# Altium schematic symbol library Zilog Microcontroller 8-Bit.SchLib: 29 symbols
Pins are listed as number, name and electrical type; pins without a type are passive.

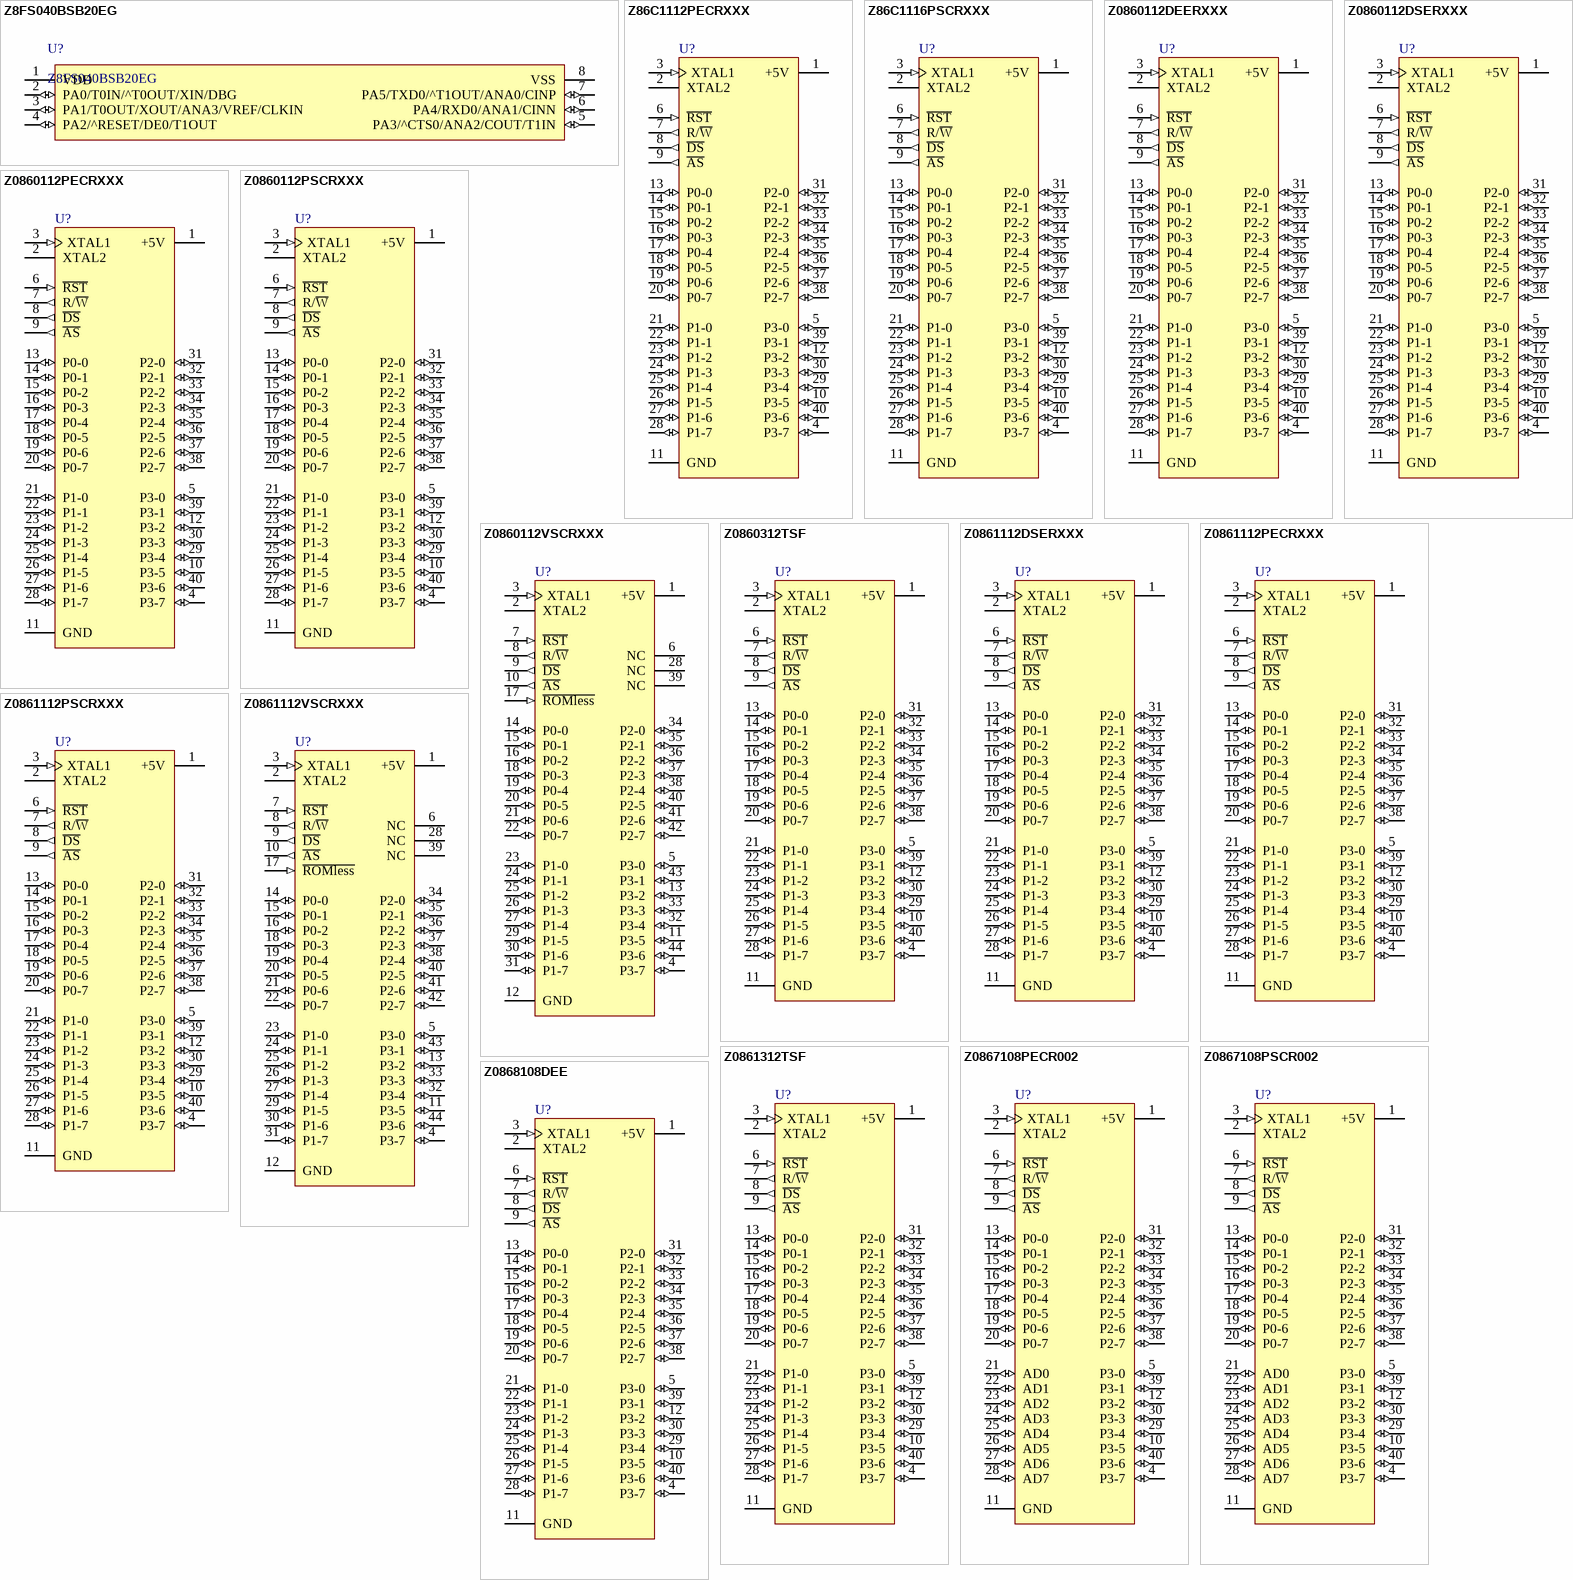
[diagram p0: symbols Z8FS040BSB20EG to Z0868108DEE]

## Z8FS040BSB20EG
designator U?
8-bit Microcontrollers - MCU ZMotion MCU Mot Det IC, 4KB Flash
footprint SOIC127P600X173-8N (SOIC, 8-Leads, Body 4.88x3.90mm, Pitch 1.27mm, IPC Medium Density)
pins: 1 VDD (power), 2 PA0/T0IN/^T0OUT/XIN/DBG (io), 3 PA1/T0OUT/XOUT/ANA3/VREF/CLKIN (io), 4 PA2/^RESET/DE0/T1OUT (io), 5 PA3/^CTS0/ANA2/COUT/T1IN (io), 6 PA4/RXD0/ANA1/CINN (io), 7 PA5/TXD0/^T1OUT/ANA0/CINP (io), 8 VSS (power)

## Z86C1112PECRXXX
designator U?
8-Bit Microcontroller with 4K ROM; Published: 15-Apr-2002; LatestRevisionDate: 04-Mar-2005; LatestRevisionNote: Stylized 3D Model Added.; DatasheetVersion: Jun-1987; PackageVersion: Jun-1999; PackageReference: PDIP40; Publisher: Altium Limited; PackageDescription: DIP; 40 Leads; Row Spacing 15.24 mm; Pitch 2.54 mm; ComponentLink1Description: Manufacturer Link; ComponentLink1URL: http://www.zilog.com/
footprint PDIP40 (DIP; 40 Leads; Row Spacing 15.24 mm; Pitch 2.54 mm)
3D model PDIP40 (DIP; 40 Leads; Row Spacing 15.24 mm; Pitch 2.54 mm)
pins: 1 +5V (power), 2 XTAL2, 3 XTAL1 (in), 4 P3-7 (io), 5 P3-0 (io), 6 ~{RST} (in), 7 R/~{W} (out), 8 ~{DS} (out), 9 ~{AS} (out), 10 P3-5 (io), 11 GND (power), 12 P3-2 (io), 13 P0-0 (io), 14 P0-1 (io), 15 P0-2 (io), 16 P0-3 (io), 17 P0-4 (io), 18 P0-5 (io), 19 P0-6 (io), 20 P0-7 (io), 21 P1-0 (io), 22 P1-1 (io), 23 P1-2 (io), 24 P1-3 (io), 25 P1-4 (io), 26 P1-5 (io), 27 P1-6 (io), 28 P1-7 (io), 29 P3-4 (io), 30 P3-3 (io), 31 P2-0 (io), 32 P2-1 (io), 33 P2-2 (io), 34 P2-3 (io), 35 P2-4 (io), 36 P2-5 (io), 37 P2-6 (io), 38 P2-7 (io), 39 P3-1 (io), 40 P3-6 (io)

## Z86C1116PSCRXXX
designator U?
8-Bit Microcontroller with 4K ROM; Published: 15-Apr-2002; LatestRevisionDate: 04-Mar-2005; LatestRevisionNote: Stylized 3D Model Added.; DatasheetVersion: Jun-1987; PackageVersion: Jun-1999; PackageReference: PDIP40; Publisher: Altium Limited; PackageDescription: DIP; 40 Leads; Row Spacing 15.24 mm; Pitch 2.54 mm; ComponentLink1Description: Manufacturer Link; ComponentLink1URL: http://www.zilog.com/
footprint PDIP40 (DIP; 40 Leads; Row Spacing 15.24 mm; Pitch 2.54 mm)
3D model PDIP40 (DIP; 40 Leads; Row Spacing 15.24 mm; Pitch 2.54 mm)
pins: 1 +5V (power), 2 XTAL2, 3 XTAL1 (in), 4 P3-7 (io), 5 P3-0 (io), 6 ~{RST} (in), 7 R/~{W} (out), 8 ~{DS} (out), 9 ~{AS} (out), 10 P3-5 (io), 11 GND (power), 12 P3-2 (io), 13 P0-0 (io), 14 P0-1 (io), 15 P0-2 (io), 16 P0-3 (io), 17 P0-4 (io), 18 P0-5 (io), 19 P0-6 (io), 20 P0-7 (io), 21 P1-0 (io), 22 P1-1 (io), 23 P1-2 (io), 24 P1-3 (io), 25 P1-4 (io), 26 P1-5 (io), 27 P1-6 (io), 28 P1-7 (io), 29 P3-4 (io), 30 P3-3 (io), 31 P2-0 (io), 32 P2-1 (io), 33 P2-2 (io), 34 P2-3 (io), 35 P2-4 (io), 36 P2-5 (io), 37 P2-6 (io), 38 P2-7 (io), 39 P3-1 (io), 40 P3-6 (io)

## Z0860112DEERXXX
designator U?
8-Bit Microcontroller with 2K ROM; Published: 15-Apr-2002; LatestRevisionDate: 04-Mar-2005; LatestRevisionNote: Stylized 3D Model Added.; DatasheetVersion: Jun-1987; PackageVersion: 1999; PackageReference: CerDIP40; Publisher: Altium Limited; PackageDescription: DIP; 40 Leads; Row Spacing 15.24 mm; Pitch 2.54 mm; ComponentLink1Description: Manufacturer Link; ComponentLink1URL: http://www.zilog.com/
footprint CerDIP40 (DIP; 40 Leads; Row Spacing 15.24 mm; Pitch 2.54 mm)
3D model PDIP40 (DIP; 40 Leads; Row Spacing 15.24 mm; Pitch 2.54 mm)
pins: 1 +5V (power), 2 XTAL2, 3 XTAL1 (in), 4 P3-7 (io), 5 P3-0 (io), 6 ~{RST} (in), 7 R/~{W} (out), 8 ~{DS} (out), 9 ~{AS} (out), 10 P3-5 (io), 11 GND (power), 12 P3-2 (io), 13 P0-0 (io), 14 P0-1 (io), 15 P0-2 (io), 16 P0-3 (io), 17 P0-4 (io), 18 P0-5 (io), 19 P0-6 (io), 20 P0-7 (io), 21 P1-0 (io), 22 P1-1 (io), 23 P1-2 (io), 24 P1-3 (io), 25 P1-4 (io), 26 P1-5 (io), 27 P1-6 (io), 28 P1-7 (io), 29 P3-4 (io), 30 P3-3 (io), 31 P2-0 (io), 32 P2-1 (io), 33 P2-2 (io), 34 P2-3 (io), 35 P2-4 (io), 36 P2-5 (io), 37 P2-6 (io), 38 P2-7 (io), 39 P3-1 (io), 40 P3-6 (io)

## Z0860112DSERXXX
designator U?
8-Bit Microcontroller with 2K ROM; Published: 15-Apr-2002; LatestRevisionDate: 04-Mar-2005; LatestRevisionNote: Stylized 3D Model Added.; DatasheetVersion: Jun-1987; PackageVersion: 1999; PackageReference: CerDIP40; Publisher: Altium Limited; PackageDescription: DIP; 40 Leads; Row Spacing 15.24 mm; Pitch 2.54 mm; ComponentLink1Description: Manufacturer Link; ComponentLink1URL: http://www.zilog.com/
footprint CerDIP40 (DIP; 40 Leads; Row Spacing 15.24 mm; Pitch 2.54 mm)
3D model PDIP40 (DIP; 40 Leads; Row Spacing 15.24 mm; Pitch 2.54 mm)
pins: 1 +5V (power), 2 XTAL2, 3 XTAL1 (in), 4 P3-7 (io), 5 P3-0 (io), 6 ~{RST} (in), 7 R/~{W} (out), 8 ~{DS} (out), 9 ~{AS} (out), 10 P3-5 (io), 11 GND (power), 12 P3-2 (io), 13 P0-0 (io), 14 P0-1 (io), 15 P0-2 (io), 16 P0-3 (io), 17 P0-4 (io), 18 P0-5 (io), 19 P0-6 (io), 20 P0-7 (io), 21 P1-0 (io), 22 P1-1 (io), 23 P1-2 (io), 24 P1-3 (io), 25 P1-4 (io), 26 P1-5 (io), 27 P1-6 (io), 28 P1-7 (io), 29 P3-4 (io), 30 P3-3 (io), 31 P2-0 (io), 32 P2-1 (io), 33 P2-2 (io), 34 P2-3 (io), 35 P2-4 (io), 36 P2-5 (io), 37 P2-6 (io), 38 P2-7 (io), 39 P3-1 (io), 40 P3-6 (io)

## Z0860112PECRXXX
designator U?
8-Bit Microcontroller with 2K ROM; Published: 15-Apr-2002; LatestRevisionDate: 04-Mar-2005; LatestRevisionNote: Stylized 3D Model Added.; DatasheetVersion: Jun-1987; PackageVersion: Jun-1999; PackageReference: PDIP40; Publisher: Altium Limited; PackageDescription: DIP; 40 Leads; Row Spacing 15.24 mm; Pitch 2.54 mm; ComponentLink1Description: Manufacturer Link; ComponentLink1URL: http://www.zilog.com/
footprint PDIP40 (DIP; 40 Leads; Row Spacing 15.24 mm; Pitch 2.54 mm)
3D model PDIP40 (DIP; 40 Leads; Row Spacing 15.24 mm; Pitch 2.54 mm)
pins: 1 +5V (power), 2 XTAL2, 3 XTAL1 (in), 4 P3-7 (io), 5 P3-0 (io), 6 ~{RST} (in), 7 R/~{W} (out), 8 ~{DS} (out), 9 ~{AS} (out), 10 P3-5 (io), 11 GND (power), 12 P3-2 (io), 13 P0-0 (io), 14 P0-1 (io), 15 P0-2 (io), 16 P0-3 (io), 17 P0-4 (io), 18 P0-5 (io), 19 P0-6 (io), 20 P0-7 (io), 21 P1-0 (io), 22 P1-1 (io), 23 P1-2 (io), 24 P1-3 (io), 25 P1-4 (io), 26 P1-5 (io), 27 P1-6 (io), 28 P1-7 (io), 29 P3-4 (io), 30 P3-3 (io), 31 P2-0 (io), 32 P2-1 (io), 33 P2-2 (io), 34 P2-3 (io), 35 P2-4 (io), 36 P2-5 (io), 37 P2-6 (io), 38 P2-7 (io), 39 P3-1 (io), 40 P3-6 (io)

## Z0860112PSCRXXX
designator U?
8-Bit Microcontroller with 2K ROM; Published: 15-Apr-2002; LatestRevisionDate: 04-Mar-2005; LatestRevisionNote: Stylized 3D Model Added.; DatasheetVersion: Jun-1987; PackageVersion: Jun-1999; PackageReference: PDIP40; Publisher: Altium Limited; PackageDescription: DIP; 40 Leads; Row Spacing 15.24 mm; Pitch 2.54 mm; ComponentLink1Description: Manufacturer Link; ComponentLink1URL: http://www.zilog.com/
footprint PDIP40 (DIP; 40 Leads; Row Spacing 15.24 mm; Pitch 2.54 mm)
3D model PDIP40 (DIP; 40 Leads; Row Spacing 15.24 mm; Pitch 2.54 mm)
pins: 1 +5V (power), 2 XTAL2, 3 XTAL1 (in), 4 P3-7 (io), 5 P3-0 (io), 6 ~{RST} (in), 7 R/~{W} (out), 8 ~{DS} (out), 9 ~{AS} (out), 10 P3-5 (io), 11 GND (power), 12 P3-2 (io), 13 P0-0 (io), 14 P0-1 (io), 15 P0-2 (io), 16 P0-3 (io), 17 P0-4 (io), 18 P0-5 (io), 19 P0-6 (io), 20 P0-7 (io), 21 P1-0 (io), 22 P1-1 (io), 23 P1-2 (io), 24 P1-3 (io), 25 P1-4 (io), 26 P1-5 (io), 27 P1-6 (io), 28 P1-7 (io), 29 P3-4 (io), 30 P3-3 (io), 31 P2-0 (io), 32 P2-1 (io), 33 P2-2 (io), 34 P2-3 (io), 35 P2-4 (io), 36 P2-5 (io), 37 P2-6 (io), 38 P2-7 (io), 39 P3-1 (io), 40 P3-6 (io)

## Z0860112VSCRXXX
designator U?
8-Bit Microcontroller with 2K ROM; Published: 15-Apr-2002; LatestRevisionDate: 13-Apr-2006; LatestRevisionNote: IPC-7351 Footprint Added.; DatasheetVersion: Jun-1987; PackageReference: PCC44; Publisher: Altium Limited; PackageDescription: 44-Pin Leaded Chip Carrier 1.27 mm Pitch; Code_IPC: PLCC-44; ComponentLink1Description: Manufacturer Link; ComponentLink1URL: http://www.zilog.com/
footprint PCC44_N (Leaded Chip Carrier, 44-Leads, Body 16.6x16.6mm, Pitch 1.27mm, IPC Medium Density)
footprint PCC44_L (Leaded Chip Carrier, 44-Leads, Body 16.6x16.6mm, Pitch 1.27mm, IPC High Density)
footprint PCC44_M (Leaded Chip Carrier, 44-Leads, Body 16.6x16.6mm, Pitch 1.27mm, IPC Low Density)
3D model Z08601-PCC44 (44-Pin Leaded Chip Carrier 1.27 mm Pitch)
pins: 1 +5V (power), 2 XTAL2, 3 XTAL1 (in), 4 P3-7 (io), 5 P3-0 (io), 6 NC, 7 ~{RST} (in), 8 R/~{W} (out), 9 ~{DS} (out), 10 ~{AS} (out), 11 P3-5 (io), 12 GND (power), 13 P3-2 (io), 14 P0-0 (io), 15 P0-1 (io), 16 P0-2 (io), 17 ~{ROMless} (in), 18 P0-3 (io), 19 P0-4 (io), 20 P0-5 (io), 21 P0-6 (io), 22 P0-7 (io), 23 P1-0 (io), 24 P1-1 (io), 25 P1-2 (io), 26 P1-3 (io), 27 P1-4 (io), 28 NC, 29 P1-5 (io), 30 P1-6 (io), 31 P1-7 (io), 32 P3-4 (io), 33 P3-3 (io), 34 P2-0 (io), 35 P2-1 (io), 36 P2-2 (io), 37 P2-3 (io), 38 P2-4 (io), 39 NC, 40 P2-5 (io), 41 P2-6 (io), 42 P2-7 (io), 43 P3-1 (io), 44 P3-6 (io)

## Z0860312TSF
designator U?
8-Bit Microcontroller with 2K EPROM Interface; Published: 15-Apr-2002; DatasheetVersion: Jun-1987; PackageVersion: 1989; PackageReference: TDIL40; Publisher: Altium Limited; PackageDescription: DIP; 40 Round Pins; Row Space 15.24 mm; Pitch 2.54 mm; ComponentLink1Description: Manufacturer Link; ComponentLink1URL: http://www.zilog.com/
footprint TDIL40 (DIP; 40 Round Pins; Row Space 15.24 mm; Pitch 2.54 mm)
pins: 1 +5V (power), 2 XTAL2, 3 XTAL1 (in), 4 P3-7 (io), 5 P3-0 (io), 6 ~{RST} (in), 7 R/~{W} (out), 8 ~{DS} (out), 9 ~{AS} (out), 10 P3-5 (io), 11 GND (power), 12 P3-2 (io), 13 P0-0 (io), 14 P0-1 (io), 15 P0-2 (io), 16 P0-3 (io), 17 P0-4 (io), 18 P0-5 (io), 19 P0-6 (io), 20 P0-7 (io), 21 P1-0 (io), 22 P1-1 (io), 23 P1-2 (io), 24 P1-3 (io), 25 P1-4 (io), 26 P1-5 (io), 27 P1-6 (io), 28 P1-7 (io), 29 P3-4 (io), 30 P3-3 (io), 31 P2-0 (io), 32 P2-1 (io), 33 P2-2 (io), 34 P2-3 (io), 35 P2-4 (io), 36 P2-5 (io), 37 P2-6 (io), 38 P2-7 (io), 39 P3-1 (io), 40 P3-6 (io)

## Z0861112DSERXXX
designator U?
8-Bit Microcontroller with 4K ROM; Published: 15-Apr-2002; LatestRevisionDate: 04-Mar-2005; LatestRevisionNote: Stylized 3D Model Added.; DatasheetVersion: Jun-1987; PackageVersion: 1999; PackageReference: CerDIP40; Publisher: Altium Limited; PackageDescription: DIP; 40 Leads; Row Spacing 15.24 mm; Pitch 2.54 mm; ComponentLink1Description: Manufacturer Link; ComponentLink1URL: http://www.zilog.com/
footprint CerDIP40 (DIP; 40 Leads; Row Spacing 15.24 mm; Pitch 2.54 mm)
3D model PDIP40 (DIP; 40 Leads; Row Spacing 15.24 mm; Pitch 2.54 mm)
pins: 1 +5V (power), 2 XTAL2, 3 XTAL1 (in), 4 P3-7 (io), 5 P3-0 (io), 6 ~{RST} (in), 7 R/~{W} (out), 8 ~{DS} (out), 9 ~{AS} (out), 10 P3-5 (io), 11 GND (power), 12 P3-2 (io), 13 P0-0 (io), 14 P0-1 (io), 15 P0-2 (io), 16 P0-3 (io), 17 P0-4 (io), 18 P0-5 (io), 19 P0-6 (io), 20 P0-7 (io), 21 P1-0 (io), 22 P1-1 (io), 23 P1-2 (io), 24 P1-3 (io), 25 P1-4 (io), 26 P1-5 (io), 27 P1-6 (io), 28 P1-7 (io), 29 P3-4 (io), 30 P3-3 (io), 31 P2-0 (io), 32 P2-1 (io), 33 P2-2 (io), 34 P2-3 (io), 35 P2-4 (io), 36 P2-5 (io), 37 P2-6 (io), 38 P2-7 (io), 39 P3-1 (io), 40 P3-6 (io)

## Z0861112PECRXXX
designator U?
8-Bit Microcontroller with 4K ROM; Published: 15-Apr-2002; LatestRevisionDate: 04-Mar-2005; LatestRevisionNote: Stylized 3D Model Added.; DatasheetVersion: Jun-1987; PackageVersion: Jun-1999; PackageReference: PDIP40; Publisher: Altium Limited; PackageDescription: DIP; 40 Leads; Row Spacing 15.24 mm; Pitch 2.54 mm; ComponentLink1Description: Manufacturer Link; ComponentLink1URL: http://www.zilog.com/
footprint PDIP40 (DIP; 40 Leads; Row Spacing 15.24 mm; Pitch 2.54 mm)
3D model PDIP40 (DIP; 40 Leads; Row Spacing 15.24 mm; Pitch 2.54 mm)
pins: 1 +5V (power), 2 XTAL2, 3 XTAL1 (in), 4 P3-7 (io), 5 P3-0 (io), 6 ~{RST} (in), 7 R/~{W} (out), 8 ~{DS} (out), 9 ~{AS} (out), 10 P3-5 (io), 11 GND (power), 12 P3-2 (io), 13 P0-0 (io), 14 P0-1 (io), 15 P0-2 (io), 16 P0-3 (io), 17 P0-4 (io), 18 P0-5 (io), 19 P0-6 (io), 20 P0-7 (io), 21 P1-0 (io), 22 P1-1 (io), 23 P1-2 (io), 24 P1-3 (io), 25 P1-4 (io), 26 P1-5 (io), 27 P1-6 (io), 28 P1-7 (io), 29 P3-4 (io), 30 P3-3 (io), 31 P2-0 (io), 32 P2-1 (io), 33 P2-2 (io), 34 P2-3 (io), 35 P2-4 (io), 36 P2-5 (io), 37 P2-6 (io), 38 P2-7 (io), 39 P3-1 (io), 40 P3-6 (io)

## Z0861112PSCRXXX
designator U?
8-Bit Microcontroller with 4K ROM; Published: 15-Apr-2002; LatestRevisionDate: 04-Mar-2005; LatestRevisionNote: Stylized 3D Model Added.; DatasheetVersion: Jun-1987; PackageVersion: Jun-1999; PackageReference: PDIP40; Publisher: Altium Limited; PackageDescription: DIP; 40 Leads; Row Spacing 15.24 mm; Pitch 2.54 mm; ComponentLink1Description: Manufacturer Link; ComponentLink1URL: http://www.zilog.com/
footprint PDIP40 (DIP; 40 Leads; Row Spacing 15.24 mm; Pitch 2.54 mm)
3D model PDIP40 (DIP; 40 Leads; Row Spacing 15.24 mm; Pitch 2.54 mm)
pins: 1 +5V (power), 2 XTAL2, 3 XTAL1 (in), 4 P3-7 (io), 5 P3-0 (io), 6 ~{RST} (in), 7 R/~{W} (out), 8 ~{DS} (out), 9 ~{AS} (out), 10 P3-5 (io), 11 GND (power), 12 P3-2 (io), 13 P0-0 (io), 14 P0-1 (io), 15 P0-2 (io), 16 P0-3 (io), 17 P0-4 (io), 18 P0-5 (io), 19 P0-6 (io), 20 P0-7 (io), 21 P1-0 (io), 22 P1-1 (io), 23 P1-2 (io), 24 P1-3 (io), 25 P1-4 (io), 26 P1-5 (io), 27 P1-6 (io), 28 P1-7 (io), 29 P3-4 (io), 30 P3-3 (io), 31 P2-0 (io), 32 P2-1 (io), 33 P2-2 (io), 34 P2-3 (io), 35 P2-4 (io), 36 P2-5 (io), 37 P2-6 (io), 38 P2-7 (io), 39 P3-1 (io), 40 P3-6 (io)

## Z0861112VSCRXXX
designator U?
8-Bit Microcontroller with 4K ROM; Published: 15-Apr-2002; LatestRevisionDate: 13-Apr-2006; LatestRevisionNote: IPC-7351 Footprint Added.; DatasheetVersion: Jun-1987; PackageReference: PCC44; Publisher: Altium Limited; PackageDescription: 44-Pin Leaded Chip Carrier 1.27 mm Pitch; Code_IPC: PLCC-44; ComponentLink1Description: Manufacturer Link; ComponentLink1URL: http://www.zilog.com/
footprint PCC44_N (Leaded Chip Carrier, 44-Leads, Body 16.6x16.6mm, Pitch 1.27mm, IPC Medium Density)
footprint PCC44_L (Leaded Chip Carrier, 44-Leads, Body 16.6x16.6mm, Pitch 1.27mm, IPC High Density)
footprint PCC44_M (Leaded Chip Carrier, 44-Leads, Body 16.6x16.6mm, Pitch 1.27mm, IPC Low Density)
3D model Z08611-PCC44 (44-Pin Leaded Chip Carrier 1.27 mm Pitch)
pins: 1 +5V (power), 2 XTAL2, 3 XTAL1 (in), 4 P3-7 (io), 5 P3-0 (io), 6 NC, 7 ~{RST} (in), 8 R/~{W} (out), 9 ~{DS} (out), 10 ~{AS} (out), 11 P3-5 (io), 12 GND (power), 13 P3-2 (io), 14 P0-0 (io), 15 P0-1 (io), 16 P0-2 (io), 17 ~{ROMless} (in), 18 P0-3 (io), 19 P0-4 (io), 20 P0-5 (io), 21 P0-6 (io), 22 P0-7 (io), 23 P1-0 (io), 24 P1-1 (io), 25 P1-2 (io), 26 P1-3 (io), 27 P1-4 (io), 28 NC, 29 P1-5 (io), 30 P1-6 (io), 31 P1-7 (io), 32 P3-4 (io), 33 P3-3 (io), 34 P2-0 (io), 35 P2-1 (io), 36 P2-2 (io), 37 P2-3 (io), 38 P2-4 (io), 39 NC, 40 P2-5 (io), 41 P2-6 (io), 42 P2-7 (io), 43 P3-1 (io), 44 P3-6 (io)

## Z0861312TSF
designator U?
8-Bit Microcontroller with 4K EPROM Interface; Published: 15-Apr-2002; DatasheetVersion: Jun-1987; PackageVersion: 1989; PackageReference: TDIL40; Publisher: Altium Limited; PackageDescription: DIP; 40 Round Pins; Row Space 15.24 mm; Pitch 2.54 mm; ComponentLink1Description: Manufacturer Link; ComponentLink1URL: http://www.zilog.com/
footprint TDIL40 (DIP; 40 Round Pins; Row Space 15.24 mm; Pitch 2.54 mm)
pins: 1 +5V (power), 2 XTAL2, 3 XTAL1 (in), 4 P3-7 (io), 5 P3-0 (io), 6 ~{RST} (in), 7 R/~{W} (out), 8 ~{DS} (out), 9 ~{AS} (out), 10 P3-5 (io), 11 GND (power), 12 P3-2 (io), 13 P0-0 (io), 14 P0-1 (io), 15 P0-2 (io), 16 P0-3 (io), 17 P0-4 (io), 18 P0-5 (io), 19 P0-6 (io), 20 P0-7 (io), 21 P1-0 (io), 22 P1-1 (io), 23 P1-2 (io), 24 P1-3 (io), 25 P1-4 (io), 26 P1-5 (io), 27 P1-6 (io), 28 P1-7 (io), 29 P3-4 (io), 30 P3-3 (io), 31 P2-0 (io), 32 P2-1 (io), 33 P2-2 (io), 34 P2-3 (io), 35 P2-4 (io), 36 P2-5 (io), 37 P2-6 (io), 38 P2-7 (io), 39 P3-1 (io), 40 P3-6 (io)

## Z0867108PECR002
designator U?
8-Bit Microcontroller with BASIC/Debug Interpreter; Published: 15-Apr-2002; LatestRevisionDate: 04-Mar-2005; LatestRevisionNote: Stylized 3D Model Added.; DatasheetVersion: Jun-1987; PackageVersion: Jun-1999; PackageReference: PDIP40; Publisher: Altium Limited; PackageDescription: DIP; 40 Leads; Row Spacing 15.24 mm; Pitch 2.54 mm; ComponentLink1Description: Manufacturer Link; ComponentLink1URL: http://www.zilog.com/
footprint PDIP40 (DIP; 40 Leads; Row Spacing 15.24 mm; Pitch 2.54 mm)
3D model PDIP40 (DIP; 40 Leads; Row Spacing 15.24 mm; Pitch 2.54 mm)
pins: 1 +5V (power), 2 XTAL2, 3 XTAL1 (in), 4 P3-7 (io), 5 P3-0 (io), 6 ~{RST} (in), 7 R/~{W} (out), 8 ~{DS} (out), 9 ~{AS} (out), 10 P3-5 (io), 11 GND (power), 12 P3-2 (io), 13 P0-0 (io), 14 P0-1 (io), 15 P0-2 (io), 16 P0-3 (io), 17 P0-4 (io), 18 P0-5 (io), 19 P0-6 (io), 20 P0-7 (io), 21 AD0 (io), 22 AD1 (io), 23 AD2 (io), 24 AD3 (io), 25 AD4 (io), 26 AD5 (io), 27 AD6 (io), 28 AD7 (io), 29 P3-4 (io), 30 P3-3 (io), 31 P2-0 (io), 32 P2-1 (io), 33 P2-2 (io), 34 P2-3 (io), 35 P2-4 (io), 36 P2-5 (io), 37 P2-6 (io), 38 P2-7 (io), 39 P3-1 (io), 40 P3-6 (io)

## Z0867108PSCR002
designator U?
8-Bit Microcontroller with BASIC/Debug Interpreter; Published: 15-Apr-2002; LatestRevisionDate: 04-Mar-2005; LatestRevisionNote: Stylized 3D Model Added.; DatasheetVersion: Jun-1987; PackageVersion: Jun-1999; PackageReference: PDIP40; Publisher: Altium Limited; PackageDescription: DIP; 40 Leads; Row Spacing 15.24 mm; Pitch 2.54 mm; ComponentLink1Description: Manufacturer Link; ComponentLink1URL: http://www.zilog.com/
footprint PDIP40 (DIP; 40 Leads; Row Spacing 15.24 mm; Pitch 2.54 mm)
3D model PDIP40 (DIP; 40 Leads; Row Spacing 15.24 mm; Pitch 2.54 mm)
pins: 1 +5V (power), 2 XTAL2, 3 XTAL1 (in), 4 P3-7 (io), 5 P3-0 (io), 6 ~{RST} (in), 7 R/~{W} (out), 8 ~{DS} (out), 9 ~{AS} (out), 10 P3-5 (io), 11 GND (power), 12 P3-2 (io), 13 P0-0 (io), 14 P0-1 (io), 15 P0-2 (io), 16 P0-3 (io), 17 P0-4 (io), 18 P0-5 (io), 19 P0-6 (io), 20 P0-7 (io), 21 AD0 (io), 22 AD1 (io), 23 AD2 (io), 24 AD3 (io), 25 AD4 (io), 26 AD5 (io), 27 AD6 (io), 28 AD7 (io), 29 P3-4 (io), 30 P3-3 (io), 31 P2-0 (io), 32 P2-1 (io), 33 P2-2 (io), 34 P2-3 (io), 35 P2-4 (io), 36 P2-5 (io), 37 P2-6 (io), 38 P2-7 (io), 39 P3-1 (io), 40 P3-6 (io)

## Z0868108DEE
designator U?
ROMless 8-Bit Microcontroller; Published: 15-Apr-2002; LatestRevisionDate: 04-Mar-2005; LatestRevisionNote: Stylized 3D Model Added.; DatasheetVersion: Jun-1987; PackageVersion: 1999; PackageReference: CerDIP40; Publisher: Altium Limited; PackageDescription: DIP; 40 Leads; Row Spacing 15.24 mm; Pitch 2.54 mm; ComponentLink1Description: Manufacturer Link; ComponentLink1URL: http://www.zilog.com/
footprint CerDIP40 (DIP; 40 Leads; Row Spacing 15.24 mm; Pitch 2.54 mm)
3D model PDIP40 (DIP; 40 Leads; Row Spacing 15.24 mm; Pitch 2.54 mm)
pins: 1 +5V (power), 2 XTAL2, 3 XTAL1 (in), 4 P3-7 (io), 5 P3-0 (io), 6 ~{RST} (in), 7 R/~{W} (out), 8 ~{DS} (out), 9 ~{AS} (out), 10 P3-5 (io), 11 GND (power), 12 P3-2 (io), 13 P0-0 (io), 14 P0-1 (io), 15 P0-2 (io), 16 P0-3 (io), 17 P0-4 (io), 18 P0-5 (io), 19 P0-6 (io), 20 P0-7 (io), 21 P1-0 (io), 22 P1-1 (io), 23 P1-2 (io), 24 P1-3 (io), 25 P1-4 (io), 26 P1-5 (io), 27 P1-6 (io), 28 P1-7 (io), 29 P3-4 (io), 30 P3-3 (io), 31 P2-0 (io), 32 P2-1 (io), 33 P2-2 (io), 34 P2-3 (io), 35 P2-4 (io), 36 P2-5 (io), 37 P2-6 (io), 38 P2-7 (io), 39 P3-1 (io), 40 P3-6 (io)

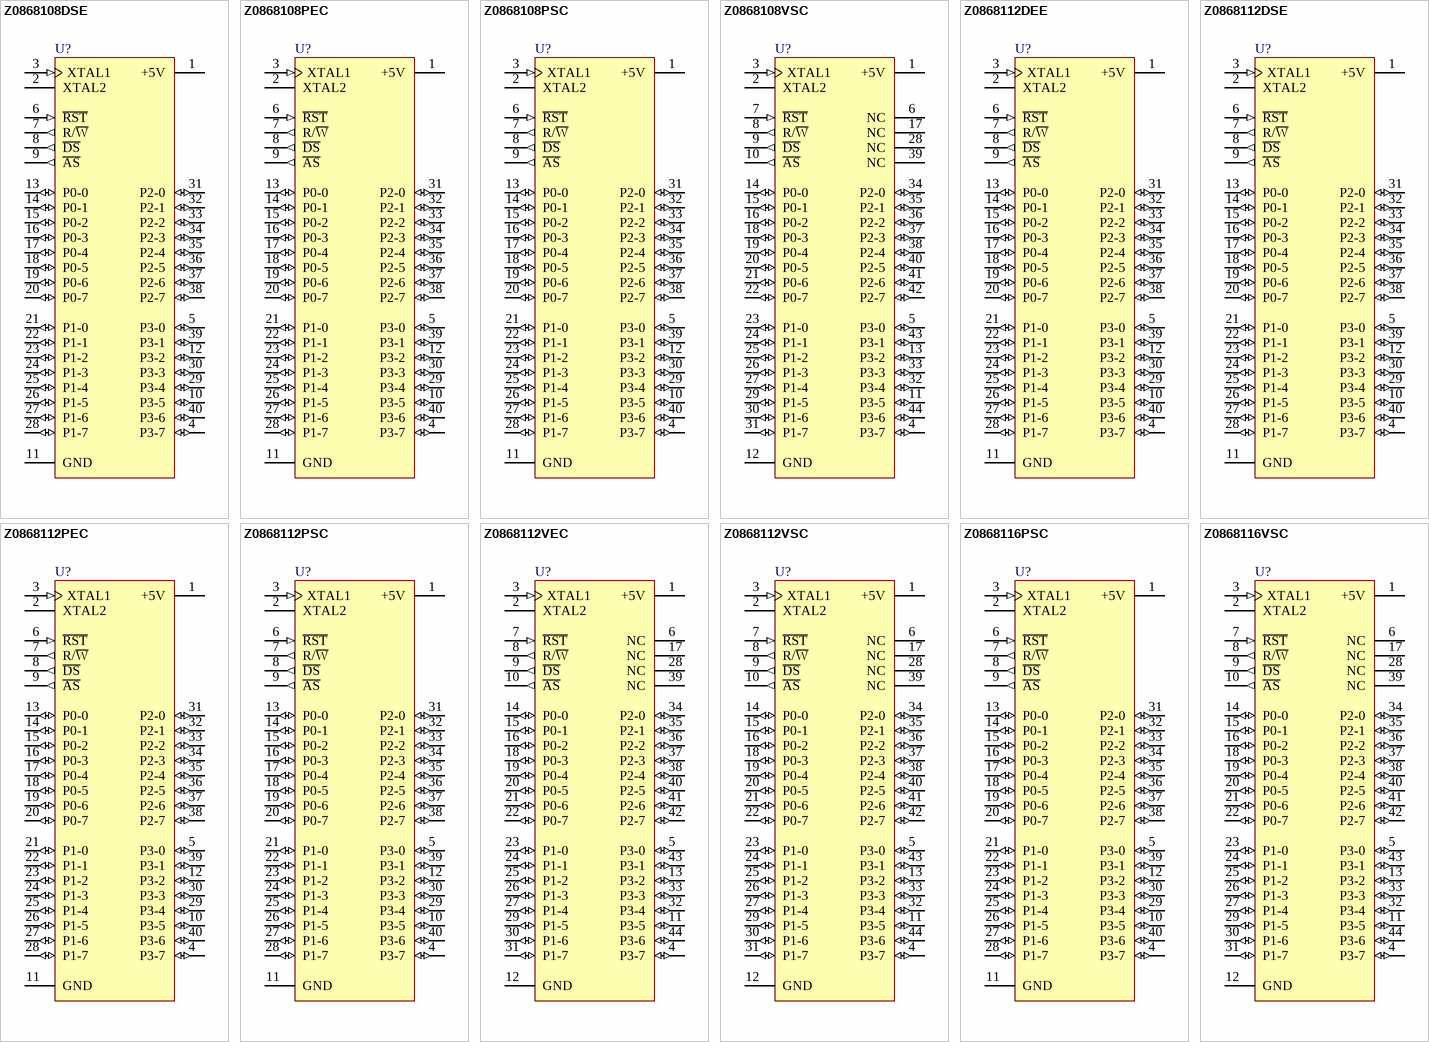
[diagram p1: symbols Z0868108DSE to Z0868116VSC]

## Z0868108DSE
designator U?
ROMless 8-Bit Microcontroller; Published: 15-Apr-2002; LatestRevisionDate: 04-Mar-2005; LatestRevisionNote: Stylized 3D Model Added.; DatasheetVersion: Jun-1987; PackageVersion: 1999; PackageReference: CerDIP40; Publisher: Altium Limited; PackageDescription: DIP; 40 Leads; Row Spacing 15.24 mm; Pitch 2.54 mm; ComponentLink1Description: Manufacturer Link; ComponentLink1URL: http://www.zilog.com/
footprint CerDIP40 (DIP; 40 Leads; Row Spacing 15.24 mm; Pitch 2.54 mm)
3D model PDIP40 (DIP; 40 Leads; Row Spacing 15.24 mm; Pitch 2.54 mm)
pins: 1 +5V (power), 2 XTAL2, 3 XTAL1 (in), 4 P3-7 (io), 5 P3-0 (io), 6 ~{RST} (in), 7 R/~{W} (out), 8 ~{DS} (out), 9 ~{AS} (out), 10 P3-5 (io), 11 GND (power), 12 P3-2 (io), 13 P0-0 (io), 14 P0-1 (io), 15 P0-2 (io), 16 P0-3 (io), 17 P0-4 (io), 18 P0-5 (io), 19 P0-6 (io), 20 P0-7 (io), 21 P1-0 (io), 22 P1-1 (io), 23 P1-2 (io), 24 P1-3 (io), 25 P1-4 (io), 26 P1-5 (io), 27 P1-6 (io), 28 P1-7 (io), 29 P3-4 (io), 30 P3-3 (io), 31 P2-0 (io), 32 P2-1 (io), 33 P2-2 (io), 34 P2-3 (io), 35 P2-4 (io), 36 P2-5 (io), 37 P2-6 (io), 38 P2-7 (io), 39 P3-1 (io), 40 P3-6 (io)

## Z0868108PEC
designator U?
ROMless 8-Bit Microcontroller; Published: 15-Apr-2002; LatestRevisionDate: 04-Mar-2005; LatestRevisionNote: Stylized 3D Model Added.; DatasheetVersion: Jun-1987; PackageVersion: Jun-1999; PackageReference: PDIP40; Publisher: Altium Limited; PackageDescription: DIP; 40 Leads; Row Spacing 15.24 mm; Pitch 2.54 mm; ComponentLink1Description: Manufacturer Link; ComponentLink1URL: http://www.zilog.com/
footprint PDIP40 (DIP; 40 Leads; Row Spacing 15.24 mm; Pitch 2.54 mm)
3D model PDIP40 (DIP; 40 Leads; Row Spacing 15.24 mm; Pitch 2.54 mm)
pins: 1 +5V (power), 2 XTAL2, 3 XTAL1 (in), 4 P3-7 (io), 5 P3-0 (io), 6 ~{RST} (in), 7 R/~{W} (out), 8 ~{DS} (out), 9 ~{AS} (out), 10 P3-5 (io), 11 GND (power), 12 P3-2 (io), 13 P0-0 (io), 14 P0-1 (io), 15 P0-2 (io), 16 P0-3 (io), 17 P0-4 (io), 18 P0-5 (io), 19 P0-6 (io), 20 P0-7 (io), 21 P1-0 (io), 22 P1-1 (io), 23 P1-2 (io), 24 P1-3 (io), 25 P1-4 (io), 26 P1-5 (io), 27 P1-6 (io), 28 P1-7 (io), 29 P3-4 (io), 30 P3-3 (io), 31 P2-0 (io), 32 P2-1 (io), 33 P2-2 (io), 34 P2-3 (io), 35 P2-4 (io), 36 P2-5 (io), 37 P2-6 (io), 38 P2-7 (io), 39 P3-1 (io), 40 P3-6 (io)

## Z0868108PSC
designator U?
ROMless 8-Bit Microcontroller; Published: 15-Apr-2002; LatestRevisionDate: 04-Mar-2005; LatestRevisionNote: Stylized 3D Model Added.; DatasheetVersion: Jun-1987; PackageVersion: Jun-1999; PackageReference: PDIP40; Publisher: Altium Limited; PackageDescription: DIP; 40 Leads; Row Spacing 15.24 mm; Pitch 2.54 mm; ComponentLink1Description: Manufacturer Link; ComponentLink1URL: http://www.zilog.com/
footprint PDIP40 (DIP; 40 Leads; Row Spacing 15.24 mm; Pitch 2.54 mm)
3D model PDIP40 (DIP; 40 Leads; Row Spacing 15.24 mm; Pitch 2.54 mm)
pins: 1 +5V (power), 2 XTAL2, 3 XTAL1 (in), 4 P3-7 (io), 5 P3-0 (io), 6 ~{RST} (in), 7 R/~{W} (out), 8 ~{DS} (out), 9 ~{AS} (out), 10 P3-5 (io), 11 GND (power), 12 P3-2 (io), 13 P0-0 (io), 14 P0-1 (io), 15 P0-2 (io), 16 P0-3 (io), 17 P0-4 (io), 18 P0-5 (io), 19 P0-6 (io), 20 P0-7 (io), 21 P1-0 (io), 22 P1-1 (io), 23 P1-2 (io), 24 P1-3 (io), 25 P1-4 (io), 26 P1-5 (io), 27 P1-6 (io), 28 P1-7 (io), 29 P3-4 (io), 30 P3-3 (io), 31 P2-0 (io), 32 P2-1 (io), 33 P2-2 (io), 34 P2-3 (io), 35 P2-4 (io), 36 P2-5 (io), 37 P2-6 (io), 38 P2-7 (io), 39 P3-1 (io), 40 P3-6 (io)

## Z0868108VSC
designator U?
ROMless 8-Bit Microcontroller; Published: 15-Apr-2002; LatestRevisionDate: 13-Apr-2006; LatestRevisionNote: IPC-7351 Footprint Added.; DatasheetVersion: Jun-1987; PackageReference: PCC44; Publisher: Altium Limited; PackageDescription: 44-Pin Leaded Chip Carrier 1.27 mm Pitch; Code_IPC: PLCC-44; ComponentLink1Description: Manufacturer Link; ComponentLink1URL: http://www.zilog.com/
footprint PCC44_N (Leaded Chip Carrier, 44-Leads, Body 16.6x16.6mm, Pitch 1.27mm, IPC Medium Density)
footprint PCC44_L (Leaded Chip Carrier, 44-Leads, Body 16.6x16.6mm, Pitch 1.27mm, IPC High Density)
footprint PCC44_M (Leaded Chip Carrier, 44-Leads, Body 16.6x16.6mm, Pitch 1.27mm, IPC Low Density)
3D model Z08681-PCC44 (44-Pin Leaded Chip Carrier 1.27 mm Pitch)
pins: 1 +5V (power), 2 XTAL2, 3 XTAL1 (in), 4 P3-7 (io), 5 P3-0 (io), 6 NC, 7 ~{RST} (in), 8 R/~{W} (out), 9 ~{DS} (out), 10 ~{AS} (out), 11 P3-5 (io), 12 GND (power), 13 P3-2 (io), 14 P0-0 (io), 15 P0-1 (io), 16 P0-2 (io), 17 NC, 18 P0-3 (io), 19 P0-4 (io), 20 P0-5 (io), 21 P0-6 (io), 22 P0-7 (io), 23 P1-0 (io), 24 P1-1 (io), 25 P1-2 (io), 26 P1-3 (io), 27 P1-4 (io), 28 NC, 29 P1-5 (io), 30 P1-6 (io), 31 P1-7 (io), 32 P3-4 (io), 33 P3-3 (io), 34 P2-0 (io), 35 P2-1 (io), 36 P2-2 (io), 37 P2-3 (io), 38 P2-4 (io), 39 NC, 40 P2-5 (io), 41 P2-6 (io), 42 P2-7 (io), 43 P3-1 (io), 44 P3-6 (io)

## Z0868112DEE
designator U?
ROMless 8-Bit Microcontroller; Published: 15-Apr-2002; LatestRevisionDate: 04-Mar-2005; LatestRevisionNote: Stylized 3D Model Added.; DatasheetVersion: Jun-1987; PackageVersion: 1999; PackageReference: CerDIP40; Publisher: Altium Limited; PackageDescription: DIP; 40 Leads; Row Spacing 15.24 mm; Pitch 2.54 mm; ComponentLink1Description: Manufacturer Link; ComponentLink1URL: http://www.zilog.com/
footprint CerDIP40 (DIP; 40 Leads; Row Spacing 15.24 mm; Pitch 2.54 mm)
3D model PDIP40 (DIP; 40 Leads; Row Spacing 15.24 mm; Pitch 2.54 mm)
pins: 1 +5V (power), 2 XTAL2, 3 XTAL1 (in), 4 P3-7 (io), 5 P3-0 (io), 6 ~{RST} (in), 7 R/~{W} (out), 8 ~{DS} (out), 9 ~{AS} (out), 10 P3-5 (io), 11 GND (power), 12 P3-2 (io), 13 P0-0 (io), 14 P0-1 (io), 15 P0-2 (io), 16 P0-3 (io), 17 P0-4 (io), 18 P0-5 (io), 19 P0-6 (io), 20 P0-7 (io), 21 P1-0 (io), 22 P1-1 (io), 23 P1-2 (io), 24 P1-3 (io), 25 P1-4 (io), 26 P1-5 (io), 27 P1-6 (io), 28 P1-7 (io), 29 P3-4 (io), 30 P3-3 (io), 31 P2-0 (io), 32 P2-1 (io), 33 P2-2 (io), 34 P2-3 (io), 35 P2-4 (io), 36 P2-5 (io), 37 P2-6 (io), 38 P2-7 (io), 39 P3-1 (io), 40 P3-6 (io)

## Z0868112DSE
designator U?
ROMless 8-Bit Microcontroller; Published: 15-Apr-2002; LatestRevisionDate: 04-Mar-2005; LatestRevisionNote: Stylized 3D Model Added.; DatasheetVersion: Jun-1987; PackageVersion: 1999; PackageReference: CerDIP40; Publisher: Altium Limited; PackageDescription: DIP; 40 Leads; Row Spacing 15.24 mm; Pitch 2.54 mm; ComponentLink1Description: Manufacturer Link; ComponentLink1URL: http://www.zilog.com/
footprint CerDIP40 (DIP; 40 Leads; Row Spacing 15.24 mm; Pitch 2.54 mm)
3D model PDIP40 (DIP; 40 Leads; Row Spacing 15.24 mm; Pitch 2.54 mm)
pins: 1 +5V (power), 2 XTAL2, 3 XTAL1 (in), 4 P3-7 (io), 5 P3-0 (io), 6 ~{RST} (in), 7 R/~{W} (out), 8 ~{DS} (out), 9 ~{AS} (out), 10 P3-5 (io), 11 GND (power), 12 P3-2 (io), 13 P0-0 (io), 14 P0-1 (io), 15 P0-2 (io), 16 P0-3 (io), 17 P0-4 (io), 18 P0-5 (io), 19 P0-6 (io), 20 P0-7 (io), 21 P1-0 (io), 22 P1-1 (io), 23 P1-2 (io), 24 P1-3 (io), 25 P1-4 (io), 26 P1-5 (io), 27 P1-6 (io), 28 P1-7 (io), 29 P3-4 (io), 30 P3-3 (io), 31 P2-0 (io), 32 P2-1 (io), 33 P2-2 (io), 34 P2-3 (io), 35 P2-4 (io), 36 P2-5 (io), 37 P2-6 (io), 38 P2-7 (io), 39 P3-1 (io), 40 P3-6 (io)

## Z0868112PEC
designator U?
ROMless 8-Bit Microcontroller; Published: 15-Apr-2002; LatestRevisionDate: 04-Mar-2005; LatestRevisionNote: Stylized 3D Model Added.; DatasheetVersion: Jun-1987; PackageVersion: Jun-1999; PackageReference: PDIP40; Publisher: Altium Limited; PackageDescription: DIP; 40 Leads; Row Spacing 15.24 mm; Pitch 2.54 mm; ComponentLink1Description: Manufacturer Link; ComponentLink1URL: http://www.zilog.com/
footprint PDIP40 (DIP; 40 Leads; Row Spacing 15.24 mm; Pitch 2.54 mm)
3D model PDIP40 (DIP; 40 Leads; Row Spacing 15.24 mm; Pitch 2.54 mm)
pins: 1 +5V (power), 2 XTAL2, 3 XTAL1 (in), 4 P3-7 (io), 5 P3-0 (io), 6 ~{RST} (in), 7 R/~{W} (out), 8 ~{DS} (out), 9 ~{AS} (out), 10 P3-5 (io), 11 GND (power), 12 P3-2 (io), 13 P0-0 (io), 14 P0-1 (io), 15 P0-2 (io), 16 P0-3 (io), 17 P0-4 (io), 18 P0-5 (io), 19 P0-6 (io), 20 P0-7 (io), 21 P1-0 (io), 22 P1-1 (io), 23 P1-2 (io), 24 P1-3 (io), 25 P1-4 (io), 26 P1-5 (io), 27 P1-6 (io), 28 P1-7 (io), 29 P3-4 (io), 30 P3-3 (io), 31 P2-0 (io), 32 P2-1 (io), 33 P2-2 (io), 34 P2-3 (io), 35 P2-4 (io), 36 P2-5 (io), 37 P2-6 (io), 38 P2-7 (io), 39 P3-1 (io), 40 P3-6 (io)

## Z0868112PSC
designator U?
ROMless 8-Bit Microcontroller; Published: 15-Apr-2002; LatestRevisionDate: 04-Mar-2005; LatestRevisionNote: Stylized 3D Model Added.; DatasheetVersion: Jun-1987; PackageVersion: Jun-1999; PackageReference: PDIP40; Publisher: Altium Limited; PackageDescription: DIP; 40 Leads; Row Spacing 15.24 mm; Pitch 2.54 mm; ComponentLink1Description: Manufacturer Link; ComponentLink1URL: http://www.zilog.com/
footprint PDIP40 (DIP; 40 Leads; Row Spacing 15.24 mm; Pitch 2.54 mm)
3D model PDIP40 (DIP; 40 Leads; Row Spacing 15.24 mm; Pitch 2.54 mm)
pins: 1 +5V (power), 2 XTAL2, 3 XTAL1 (in), 4 P3-7 (io), 5 P3-0 (io), 6 ~{RST} (in), 7 R/~{W} (out), 8 ~{DS} (out), 9 ~{AS} (out), 10 P3-5 (io), 11 GND (power), 12 P3-2 (io), 13 P0-0 (io), 14 P0-1 (io), 15 P0-2 (io), 16 P0-3 (io), 17 P0-4 (io), 18 P0-5 (io), 19 P0-6 (io), 20 P0-7 (io), 21 P1-0 (io), 22 P1-1 (io), 23 P1-2 (io), 24 P1-3 (io), 25 P1-4 (io), 26 P1-5 (io), 27 P1-6 (io), 28 P1-7 (io), 29 P3-4 (io), 30 P3-3 (io), 31 P2-0 (io), 32 P2-1 (io), 33 P2-2 (io), 34 P2-3 (io), 35 P2-4 (io), 36 P2-5 (io), 37 P2-6 (io), 38 P2-7 (io), 39 P3-1 (io), 40 P3-6 (io)

## Z0868112VEC
designator U?
ROMless 8-Bit Microcontroller; Published: 15-Apr-2002; LatestRevisionDate: 13-Apr-2006; LatestRevisionNote: IPC-7351 Footprint Added.; DatasheetVersion: Jun-1987; PackageReference: PCC44; Publisher: Altium Limited; PackageDescription: 44-Pin Leaded Chip Carrier 1.27 mm Pitch; Code_IPC: PLCC-44; ComponentLink1Description: Manufacturer Link; ComponentLink1URL: http://www.zilog.com/
footprint PCC44_N (Leaded Chip Carrier, 44-Leads, Body 16.6x16.6mm, Pitch 1.27mm, IPC Medium Density)
footprint PCC44_L (Leaded Chip Carrier, 44-Leads, Body 16.6x16.6mm, Pitch 1.27mm, IPC High Density)
footprint PCC44_M (Leaded Chip Carrier, 44-Leads, Body 16.6x16.6mm, Pitch 1.27mm, IPC Low Density)
3D model Z08681-PCC44 (44-Pin Leaded Chip Carrier 1.27 mm Pitch)
pins: 1 +5V (power), 2 XTAL2, 3 XTAL1 (in), 4 P3-7 (io), 5 P3-0 (io), 6 NC, 7 ~{RST} (in), 8 R/~{W} (out), 9 ~{DS} (out), 10 ~{AS} (out), 11 P3-5 (io), 12 GND (power), 13 P3-2 (io), 14 P0-0 (io), 15 P0-1 (io), 16 P0-2 (io), 17 NC, 18 P0-3 (io), 19 P0-4 (io), 20 P0-5 (io), 21 P0-6 (io), 22 P0-7 (io), 23 P1-0 (io), 24 P1-1 (io), 25 P1-2 (io), 26 P1-3 (io), 27 P1-4 (io), 28 NC, 29 P1-5 (io), 30 P1-6 (io), 31 P1-7 (io), 32 P3-4 (io), 33 P3-3 (io), 34 P2-0 (io), 35 P2-1 (io), 36 P2-2 (io), 37 P2-3 (io), 38 P2-4 (io), 39 NC, 40 P2-5 (io), 41 P2-6 (io), 42 P2-7 (io), 43 P3-1 (io), 44 P3-6 (io)

## Z0868112VSC
designator U?
ROMless 8-Bit Microcontroller; Published: 15-Apr-2002; LatestRevisionDate: 13-Apr-2006; LatestRevisionNote: IPC-7351 Footprint Added.; DatasheetVersion: Jun-1987; PackageReference: PCC44; Publisher: Altium Limited; PackageDescription: 44-Pin Leaded Chip Carrier 1.27 mm Pitch; Code_IPC: PLCC-44; ComponentLink1Description: Manufacturer Link; ComponentLink1URL: http://www.zilog.com/
footprint PCC44_N (Leaded Chip Carrier, 44-Leads, Body 16.6x16.6mm, Pitch 1.27mm, IPC Medium Density)
footprint PCC44_L (Leaded Chip Carrier, 44-Leads, Body 16.6x16.6mm, Pitch 1.27mm, IPC High Density)
footprint PCC44_M (Leaded Chip Carrier, 44-Leads, Body 16.6x16.6mm, Pitch 1.27mm, IPC Low Density)
3D model Z08681-PCC44 (44-Pin Leaded Chip Carrier 1.27 mm Pitch)
pins: 1 +5V (power), 2 XTAL2, 3 XTAL1 (in), 4 P3-7 (io), 5 P3-0 (io), 6 NC, 7 ~{RST} (in), 8 R/~{W} (out), 9 ~{DS} (out), 10 ~{AS} (out), 11 P3-5 (io), 12 GND (power), 13 P3-2 (io), 14 P0-0 (io), 15 P0-1 (io), 16 P0-2 (io), 17 NC, 18 P0-3 (io), 19 P0-4 (io), 20 P0-5 (io), 21 P0-6 (io), 22 P0-7 (io), 23 P1-0 (io), 24 P1-1 (io), 25 P1-2 (io), 26 P1-3 (io), 27 P1-4 (io), 28 NC, 29 P1-5 (io), 30 P1-6 (io), 31 P1-7 (io), 32 P3-4 (io), 33 P3-3 (io), 34 P2-0 (io), 35 P2-1 (io), 36 P2-2 (io), 37 P2-3 (io), 38 P2-4 (io), 39 NC, 40 P2-5 (io), 41 P2-6 (io), 42 P2-7 (io), 43 P3-1 (io), 44 P3-6 (io)

## Z0868116PSC
designator U?
ROMless 8-Bit Microcontroller; Published: 15-Apr-2002; LatestRevisionDate: 04-Mar-2005; LatestRevisionNote: Stylized 3D Model Added.; DatasheetVersion: Jun-1987; PackageVersion: Jun-1999; PackageReference: PDIP40; Publisher: Altium Limited; PackageDescription: DIP; 40 Leads; Row Spacing 15.24 mm; Pitch 2.54 mm; ComponentLink1Description: Manufacturer Link; ComponentLink1URL: http://www.zilog.com/
footprint PDIP40 (DIP; 40 Leads; Row Spacing 15.24 mm; Pitch 2.54 mm)
3D model PDIP40 (DIP; 40 Leads; Row Spacing 15.24 mm; Pitch 2.54 mm)
pins: 1 +5V (power), 2 XTAL2, 3 XTAL1 (in), 4 P3-7 (io), 5 P3-0 (io), 6 ~{RST} (in), 7 R/~{W} (out), 8 ~{DS} (out), 9 ~{AS} (out), 10 P3-5 (io), 11 GND (power), 12 P3-2 (io), 13 P0-0 (io), 14 P0-1 (io), 15 P0-2 (io), 16 P0-3 (io), 17 P0-4 (io), 18 P0-5 (io), 19 P0-6 (io), 20 P0-7 (io), 21 P1-0 (io), 22 P1-1 (io), 23 P1-2 (io), 24 P1-3 (io), 25 P1-4 (io), 26 P1-5 (io), 27 P1-6 (io), 28 P1-7 (io), 29 P3-4 (io), 30 P3-3 (io), 31 P2-0 (io), 32 P2-1 (io), 33 P2-2 (io), 34 P2-3 (io), 35 P2-4 (io), 36 P2-5 (io), 37 P2-6 (io), 38 P2-7 (io), 39 P3-1 (io), 40 P3-6 (io)

## Z0868116VSC
designator U?
ROMless 8-Bit Microcontroller; Published: 15-Apr-2002; LatestRevisionDate: 13-Apr-2006; LatestRevisionNote: IPC-7351 Footprint Added.; DatasheetVersion: Jun-1987; PackageReference: PCC44; Publisher: Altium Limited; PackageDescription: 44-Pin Leaded Chip Carrier 1.27 mm Pitch; Code_IPC: PLCC-44; ComponentLink1Description: Manufacturer Link; ComponentLink1URL: http://www.zilog.com/
footprint PCC44_N (Leaded Chip Carrier, 44-Leads, Body 16.6x16.6mm, Pitch 1.27mm, IPC Medium Density)
footprint PCC44_L (Leaded Chip Carrier, 44-Leads, Body 16.6x16.6mm, Pitch 1.27mm, IPC High Density)
footprint PCC44_M (Leaded Chip Carrier, 44-Leads, Body 16.6x16.6mm, Pitch 1.27mm, IPC Low Density)
3D model Z08681-PCC44 (44-Pin Leaded Chip Carrier 1.27 mm Pitch)
pins: 1 +5V (power), 2 XTAL2, 3 XTAL1 (in), 4 P3-7 (io), 5 P3-0 (io), 6 NC, 7 ~{RST} (in), 8 R/~{W} (out), 9 ~{DS} (out), 10 ~{AS} (out), 11 P3-5 (io), 12 GND (power), 13 P3-2 (io), 14 P0-0 (io), 15 P0-1 (io), 16 P0-2 (io), 17 NC, 18 P0-3 (io), 19 P0-4 (io), 20 P0-5 (io), 21 P0-6 (io), 22 P0-7 (io), 23 P1-0 (io), 24 P1-1 (io), 25 P1-2 (io), 26 P1-3 (io), 27 P1-4 (io), 28 NC, 29 P1-5 (io), 30 P1-6 (io), 31 P1-7 (io), 32 P3-4 (io), 33 P3-3 (io), 34 P2-0 (io), 35 P2-1 (io), 36 P2-2 (io), 37 P2-3 (io), 38 P2-4 (io), 39 NC, 40 P2-5 (io), 41 P2-6 (io), 42 P2-7 (io), 43 P3-1 (io), 44 P3-6 (io)